# Altium schematic symbol library NTE4153NT1G.SchLib: 2 symbols
Pins are listed as number, name and electrical type; pins without a type are passive.

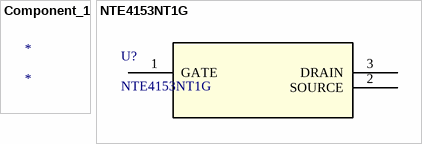
[diagram p0: symbols Component_1 to NTE4153NT1G]

## Component_1
designator *

## NTE4153NT1G
designator U?
No Description Available; Mfr_Name: onsemi; Copyright: Copyright (C) 2022 Ultra Librarian. All rights reserved.; Manufacturer_Part_Number: NTE4153NT1G; Digi-Key_Part_Number_1: NTE4153NT1GOSTR-ND; Digi-Key_Part_Number_2: NTE4153NT1GOSCT-ND; Digi-Key_Part_Number_3: NTE4153NT1GOSDKR-ND; RefDes: RefDes; Type: DEV
footprint SC89-3_0P95X1P7_ONS
pins: 1 GATE, 2 SOURCE, 3 DRAIN